# Altium schematic symbol library HC-TYPE-C-16P-CB1.0.SchLib: 1 symbol
Pins are listed as number, name and electrical type; pins without a type are passive.

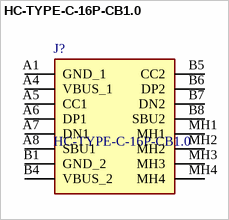
[diagram p0: symbol HC-TYPE-C-16P-CB1.0]

## HC-TYPE-C-16P-CB1.0
designator J?
3A 1 Sink panel 16P Female -25~+85 Type-C SMD USB Connectors ROHS; Manufacturer_Name: hanxia; Geometry.Height: 3.36mm; Manufacturer_Part_Number: HC-TYPE-C-16P-CB1.0; Mouser Part Number: *; Mouser Price/Stock: *; Arrow Part Number: *; Arrow Price/Stock: *; Datasheet Link: https://www.lcsc.com/datasheet/lcsc_datasheet_2211161000_HCTL-HC-TYPE-C-16P-CB1-0_C2894901.pdf
footprint HCTYPEC16PCB10
pins: A1 GND_1, A4 VBUS_1, A5 CC1, A6 DP1, A7 DN1, A8 SBU1, B1 GND_2, B4 VBUS_2, B5 CC2, B6 DP2, B7 DN2, B8 SBU2, MH1, MH2, MH3, MH4